# EAGLE library part ERM8-020-01-D-RA (library con-samtec-er8)
ERM8 Series - Male Right Angle Edge Mount
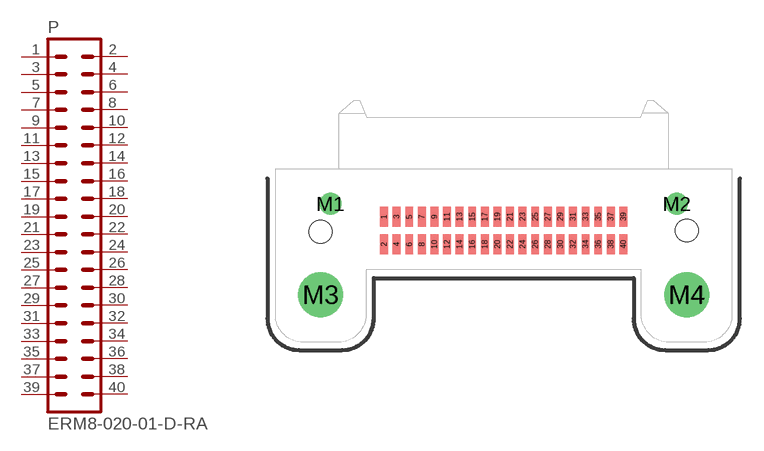
[diagram p27: symbol with the pads of ERM8-020-01-D-RA; footprint ERM8-020-01-D-RA]

Designator prefix P

## ERM8-020-01-D-RA  [ERM8-020-01-D-RA]
1  1  pas
2  2  pas
3  3  pas
4  4  pas
5  5  pas
6  6  pas
7  7  pas
8  8  pas
9  9  pas
10  10  pas
11  11  pas
12  12  pas
13  13  pas
14  14  pas
15  15  pas
16  16  pas
17  17  pas
18  18  pas
19  19  pas
20  20  pas
21  21  pas
22  22  pas
23  23  pas
24  24  pas
25  25  pas
26  26  pas
27  27  pas
28  28  pas
29  29  pas
30  30  pas
31  31  pas
32  32  pas
33  33  pas
34  34  pas
35  35  pas
36  36  pas
37  37  pas
38  38  pas
39  39  pas
40  40  pas

## Footprint ERM8-020-01-D-RA (pad centres in mm)
0.8mm Edge Rate Terminal Assembly MALE, Right Angle Double Row, 20 Position
smd 0.5 x 1.25: 1 -7.6,0.875; 2 -7.6,-0.875; 3 -6.8,0.875; 4 -6.8,-0.875; 5 -6,0.875; 6 -6,-0.875; 7 -5.2,0.875; 8 -5.2,-0.875; 9 -4.4,0.875; 10 -4.4,-0.875; 11 -3.6,0.875; 12 -3.6,-0.875; 13 -2.8,0.875; 14 -2.8,-0.875; 15 -2,0.875; 16 -2,-0.875; 17 -1.2,0.875; 18 -1.2,-0.875; 19 -0.4,0.875; 20 -0.4,-0.875; 21 0.4,0.875; 22 0.4,-0.875; 23 1.2,0.875; 24 1.2,-0.875; 25 2,0.875; 26 2,-0.875; 27 2.8,0.875; 28 2.8,-0.875; 29 3.6,0.875; 30 3.6,-0.875; 31 4.4,0.875; 32 4.4,-0.875; 33 5.2,0.875; 34 5.2,-0.875; 35 6,0.875; 36 6,-0.875; 37 6.8,0.875; 38 6.8,-0.875; 39 7.6,0.875; 40 7.6,-0.875
drill 0.7 pad 1.4 round: M1 -11,1.69; M2 11,1.69
drill 1.91 pad 2.5 round: M3 -11.625,-4.09; M4 11.625,-4.09
hole 1.45 at -11.625,-0.09
hole 1.45 at 11.625,0